# Altium footprint library PCB - LEADLESS - DFN - SILICON LABS DFN-6 3x3MM.PcbLib: 1 footprints
Each footprint in its own frame and in the unit in brackets; x right, y up, seen from the top. Pads: shape width x height; smd on the part's side, far side on the other; paste and mask are expansions set on the pad; w line width, h text height; cw(c..) or ccw(c..) is an arc to the next point about the centre after c.
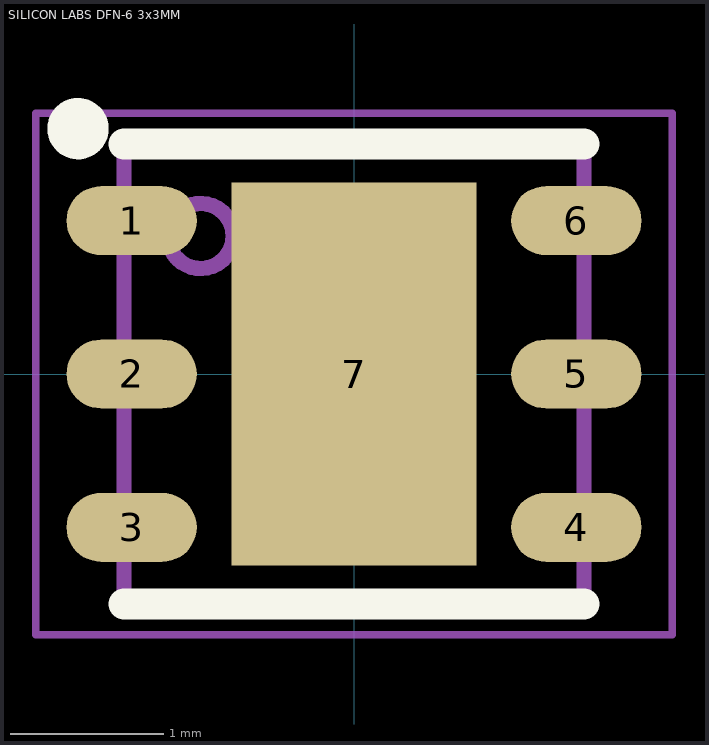
[diagram p0: the footprint, top view; thin cyan lines are the x and y axes]

## SILICON LABS DFN-6 3x3MM [mm] "Temperature Sensor Digital - Local -40°C ~ 125°C, 6 Leads, Body 3x3mm, Package 6-VFDFN Exposed Pad"
height 0.8
pads (7):
  oval 0.85x0.45 smd: 1(-1.45,1) 2(-1.45,0) 3(-1.45,-1) 4(1.45,-1) 5(1.45,0) 6(1.45,1)
  rect 1.6x2.5 smd: 7(0,0)
Top Overlay:
  circle w0.2: c-1.8,1.6 r0.1
  lines w0.2: -1.5,-1.5 1.5,-1.5 ; -1.5,1.5 1.5,1.5
Mechanical 13:
  circle w0.1: c-1,0.9 r0.212
  lines w0.1: -1.5,-1.5 1.5,-1.5 1.5,1.5 -1.5,1.5 -1.5,-1.5
Mechanical 15 (Mech15):
  lines w0.05: -2.075,-1.7 -2.075,1.7 2.075,1.7 2.075,-1.7 -2.075,-1.7
  lines w0.1: -0.5,0 0,0 ; 0,-0.5 0,0 ; 0,0.5 0,0 ; 0.5,0 0,0
3D body: height 1, standoff 0, extent 0,0 0,0
3D body: height 1.09, standoff -0.01, extent 0,0 0,0
3D body: height 1, standoff 0, extent 0,0 0,0
3D body: height 1.09, standoff -0.01, extent 0,0 0,0
3D body: height 0.8, standoff 0.05, extent -1.5,-1.5 1.5,1.5
3D body: height 1.05, standoff 0, extent 0,0 0,0